# EAGLE library part PIC16F716-P (library microchip_PIC16F716)
PIC16F716 in DIL18 package
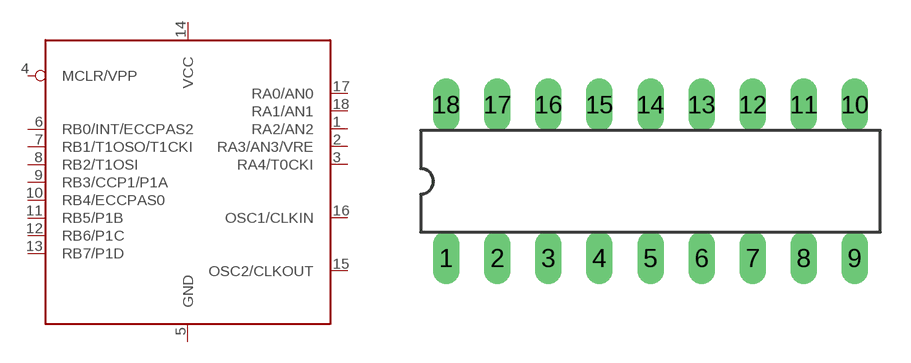
[diagram p0: symbol with the pads of DIL18; footprint DIL18]

Designator prefix IC

## PIC16F716-P  [DIL18]
1  RA2/AN2  pas
2  RA3/AN3/VRE  pas
3  RA4/T0CKI  pas
4  MCLR/VPP  pas
5  GND  pas
6  RB0/INT/ECCPAS2  pas
7  RB1/T1OSO/T1CKI  pas
8  RB2/T1OSI  pas
9  RB3/CCP1/P1A  pas
10  RB4/ECCPAS0  pas
11  RB5/P1B  pas
12  RB6/P1C  pas
13  RB7/P1D  pas
14  VCC  pas
15  OSC2/CLKOUT  pas
16  OSC1/CLKIN  pas
17  RA0/AN0  pas
18  RA1/AN1  pas

## Footprint DIL18 (pad centres in mm)
DIL18 package
drill 0.813 long: 1 0,0; 2 2.54,0; 3 5.08,0; 4 7.62,0; 5 10.16,0; 6 12.7,0; 7 15.24,0; 8 17.78,0; 9 20.32,0; 10 20.32,7.62; 11 17.78,7.62; 12 15.24,7.62; 13 12.7,7.62; 14 10.16,7.62; 15 7.62,7.62; 16 5.08,7.62; 17 2.54,7.62; 18 0,7.62